# Altium footprint library LM337KTTRG3.PcbLib: 3 footprints
Each footprint in its own frame and in the unit in brackets; x right, y up, seen from the top. Pads: shape width x height; smd on the part's side, far side on the other; paste and mask are expansions set on the pad; w line width, h text height; cw(c..) or ccw(c..) is an arc to the next point about the centre after c.
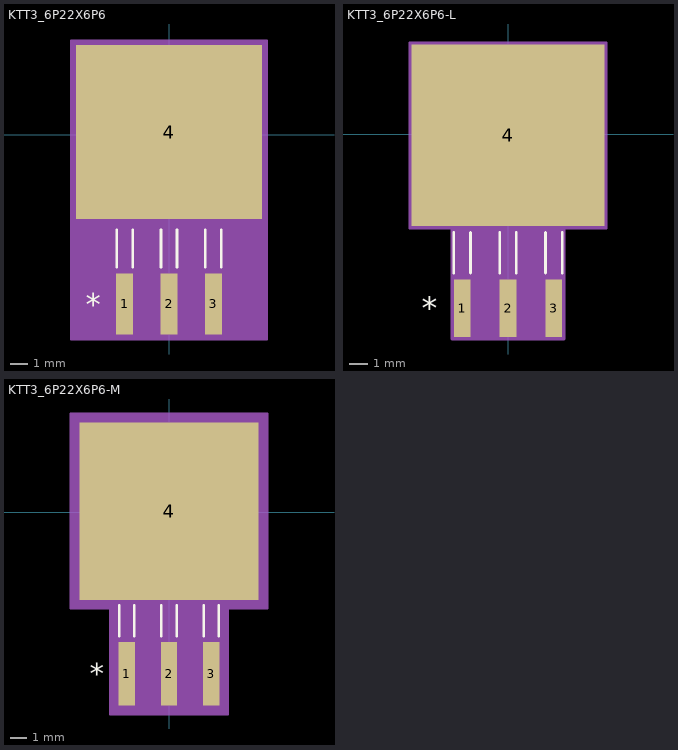
[diagram p0: the footprints below, top view; thin cyan lines are the x and y axes]

## KTT3_6P22X6P6 [mil]
pads (4):
  rect 38x138 smd paste-69 mask-69: 1(-100,-381) 2(0,-381) 3(100,-381)
  rect 420x392 smd paste-210 mask-210: 4(0,6)
Top Overlay:
  lines w6: -118,-298 -118,-214 ; -82,-298 -82,-214 ; -18,-298 -18,-214 ; 18,-298 18,-214 ; 82,-298 82,-214 ; 118,-298 118,-214
  text "*" at -187.5,-406 h50
Mechanical 13:
  lines w1: -210,-190 210,-190 210,190 -210,190 -210,-190 ; -118,-436 -118,-190 -82,-190 -82,-436 -118,-436 ; -18,-436 -18,-190 18,-190 18,-436 -18,-436 ; 82,-436 82,-190 118,-190 118,-436 82,-436
  text "*" at -187.5,-406 h50
Mechanical 15:
  region: 220,-460 -220,-460 -220,212 220,212
  lines w6: -220,-460 -220,212 220,212 220,-460 -220,-460
3D body "KTT3_6P22X6P6.step": height 67.09, standoff -2.01, extent -210,-292.99 210,190.12

## KTT3_6P22X6P6-L [mil]
pads (4):
  rect 36x126 smd paste+0 mask+0: 1(-100,-379) 2(0,-379) 3(100,-379)
  rect 420x396 smd paste+0 mask+0: 4(0,-2)
Top Overlay:
  lines w6: -118,-302 -118,-214 ; -82,-302 -82,-214 ; -18,-302 -18,-214 ; 18,-302 18,-214 ; 82,-302 82,-214 ; 118,-302 118,-214
  text "*" at -187.5,-404 h50
Mechanical 13:
  lines w1: -210,-190 210,-190 210,190 -210,190 -210,-190 ; -118,-436 -118,-190 -82,-190 -82,-436 -118,-436 ; -18,-436 -18,-190 18,-190 18,-436 -18,-436 ; 82,-436 82,-190 118,-190 118,-436 82,-436
  text "*" at -112.5,-205 h50
Mechanical 15:
  region: -122,-204 -214,-204 -214,200 214,200 214,-204 122,-204 122,-446 -122,-446
  lines w6: -214,-204 -214,200 214,200 214,-204 122,-204 122,-446 -122,-446 -122,-204 -214,-204
3D body "KTT3_6P22X6P6.step": height 67.09, standoff -2.01, extent -210,-292.99 210,190.12

## KTT3_6P22X6P6-M [mil]
pads (4):
  rect 38x150 smd paste+0 mask+0: 1(-100,-383) 2(0,-383) 3(100,-383)
  rect 424x420 smd paste+0 mask+0: 4(0,2)
Top Overlay:
  lines w6: -118,-294 -118,-221.1 ; -82,-294 -82,-221.1 ; -18,-294 -18,-221.1 ; 18,-294 18,-221.1 ; 82,-294 82,-221.1 ; 118,-294 118,-221.1
  text "*" at -187.5,-408 h50
Mechanical 13:
  lines w1: -210,-190 210,-190 210,190 -210,190 -210,-190 ; -118,-436 -118,-190 -82,-190 -82,-436 -118,-436 ; -18,-436 -18,-190 18,-190 18,-436 -18,-436 ; 82,-436 82,-190 118,-190 118,-436 82,-436
  text "*" at -112.5,-205 h50
Mechanical 15:
  region: -139,-228 -232,-228 -232,232 232,232 232,-228 139,-228 139,-478 -139,-478
  lines w6: -232,-228 -232,232 232,232 232,-228 139,-228 139,-478 -139,-478 -139,-228 -232,-228
3D body "KTT3_6P22X6P6.step": height 67.09, standoff -2.01, extent -210,-292.99 210,190.12